# EAGLE library part USB3320C (library ICs)
Highly Integrated Full Featured Hi-Speed USB 2.0 ULPI Transceiver
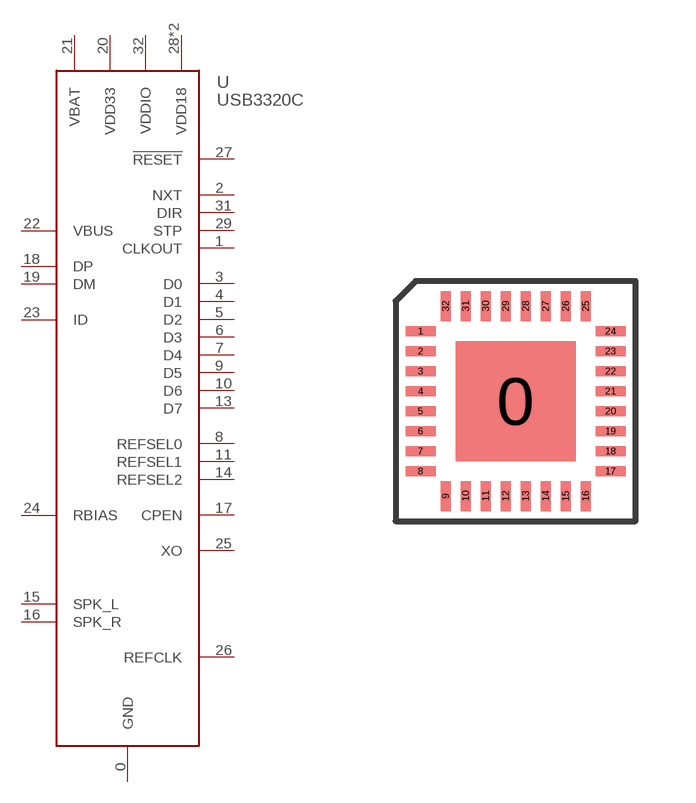
[diagram p267: symbol with the pads of QFN32; footprint QFN32]

Designator prefix U

## USB3320C (HEIGHT: 1; LCSC: C132156; PRICE_PER: 5.69; VALUE: USB 2.0 PHY)  [QFN32]
0  GND
1  CLKOUT
2  NXT
3  D0
4  D1
5  D2
6  D3
7  D4
8  REFSEL0
9  D5
10  D6
11  REFSEL1
13  D7
14  REFSEL2
15  SPK_L
16  SPK_R
17  CPEN
18  DP
19  DM
20  VDD33
21  VBAT
22  VBUS
23  ID
24  RBIAS
25  XO
26  REFCLK
27  !RESET
28  VDD18
29  STP
30  VDD18
31  DIR
32  VDDIO

## Footprint QFN32 (pad centres in mm)
smd 3 x 3: 0 0,0
smd 0.75 x 0.25: 1 -2.375,1.75; 2 -2.375,1.25; 3 -2.375,0.75; 4 -2.375,0.25; 5 -2.375,-0.25; 6 -2.375,-0.75; 7 -2.375,-1.25; 8 -2.375,-1.75; 17 2.375,-1.75; 18 2.375,-1.25; 19 2.375,-0.75; 20 2.375,-0.25; 21 2.375,0.25; 22 2.375,0.75; 23 2.375,1.25; 24 2.375,1.75
smd 0.25 x 0.75: 9 -1.75,-2.375; 10 -1.25,-2.375; 11 -0.75,-2.375; 12 -0.25,-2.375; 13 0.25,-2.375; 14 0.75,-2.375; 15 1.25,-2.375; 16 1.75,-2.375; 25 1.75,2.375; 26 1.25,2.375; 27 0.75,2.375; 28 0.25,2.375; 29 -0.25,2.375; 30 -0.75,2.375; 31 -1.25,2.375; 32 -1.75,2.375